# EAGLE library part PP140-80CBS3.75X4.00 (library NewSDR)
LeaderTech 3.75"x4.00" Shield
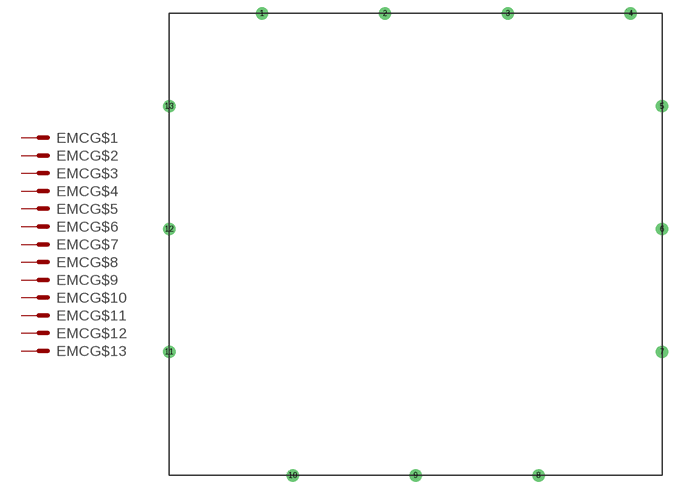
[diagram p64: symbol with the pads of PP140-80CBS3.75X4.00; footprint PP140-80CBS3.75X4.00]

Designator prefix EMC; gates G$1=MS G$2=MS G$3=MS G$4=MS G$5=MS G$6=MS G$7=MS G$8=MS G$9=MS G$10=MS G$11=MS G$12=MS G$13=MS

## PP140-80CBS3.75X4.00  [PP140-80CBS3.75X4.00]
1  G$1:MS  pas
2  G$2:MS  pas
3  G$3:MS  pas
4  G$4:MS  pas
5  G$5:MS  pas
6  G$6:MS  pas
7  G$7:MS  pas
8  G$8:MS  pas
9  G$9:MS  pas
10  G$10:MS  pas
11  G$11:MS  pas
12  G$12:MS  pas
13  G$13:MS  pas

## Footprint PP140-80CBS3.75X4.00 (pad centres in mm)
Leader Tech Shield
drill 1.27 pad 2.54: 1 19.202,0; 2 44.602,0; 3 70.002,0; 4 95.402,0; 5 101.905,-19.202; 6 101.905,-44.602; 7 101.905,-70.002; 8 76.352,-95.555; 9 50.952,-95.555; 10 25.552,-95.555; 11 0,-70.002; 12 0,-44.602; 13 0,-19.202